# Altium footprint library SparkFun-Connectors.PCBLIB: 305 footprints (part 16 of 20)
Each footprint in its own frame and in the unit in brackets; x right, y up, seen from the top. Pads: shape width x height; smd on the part's side, far side on the other; paste and mask are expansions set on the pad; w line width, h text height; cw(c..) or ccw(c..) is an arc to the next point about the centre after c.
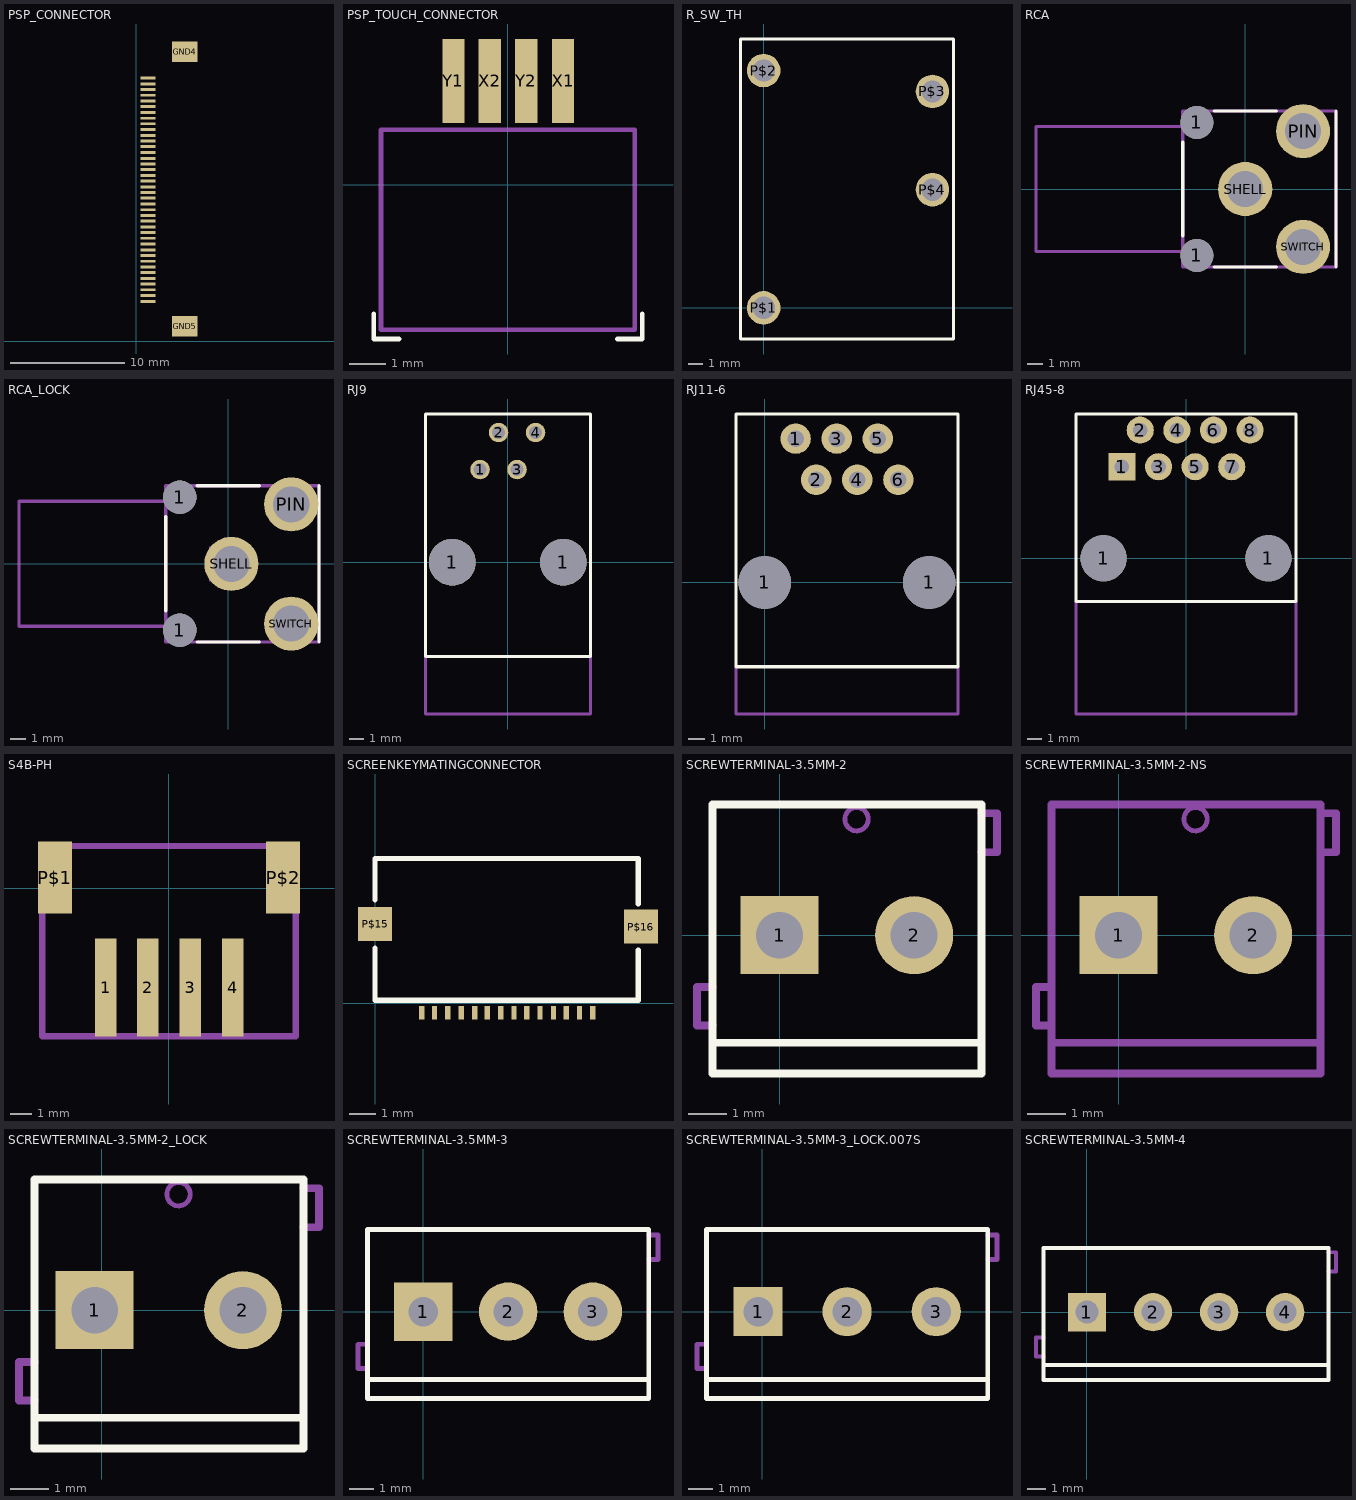
[diagram p15: the footprints below, top view; thin cyan lines are the x and y axes]

## PSP_CONNECTOR [mil]
pads (43):
  rect 1x1 smd far side: .(174,997)
  rect 50x10 smd: AVDD(40,237) AVDD2(40,217) B0(40,512) B1(40,493) B2(40,473) B3(40,453) B4(40,434) B5(40,414) B6(40,394) B7(40,375) CK(40,335) DISP(40,315) G0(40,670) G1(40,650) G2(40,630) G3(40,611) G4(40,591) G5(40,571) G6(40,552) G7(40,532) GND(40,906) GND2(40,886) GND3(40,355) HSYNC(40,296) NC(40,256) NC2(40,197) R0(40,827) R1(40,808) R2(40,788) R3(40,768) R4(40,749) R5(40,729) R6(40,709) R7(40,689) TEST1(40,178) TEST2(40,158) TEST3(40,138) VCC(40,867) VCC2(40,847) VSYNC(40,276)
  rect 87x71 smd: GND4(166,997) GND5(166,52)

## PSP_TOUCH_CONNECTOR [mil]
pads (4):
  rect 24x91 smd: X1(60,113) X2(-19.68,113) Y1(-59.06,113) Y2(20,113)
Top Overlay:
  lines w5: -145.67,-139.76 -145.67,-167.32 -118.11,-167.32 ; 119,-167.32 146,-167.32 146,-139.76
Mechanical 16:
  lines w5: -137.8,-157.48 138,-157.48 138,60 -137.8,60 -137.8,-157.48

## R_SW_TH [mil]
pads (4):
  round 94.5 hole 63: P$1(0,0) P$2(0,669) P$3(476,610) P$4(476,333)
Top Overlay:
  lines w8: -65,-88 -65,-54 -65,758 535,758 535,-88 -65,-88

## RCA [mil]
pads (5):
  round 83 hole 83: 1(-122.05,-167.32) 1(-122.05,168)
  round 136.5 hole 91: PIN(146,146) SHELL(0,0) SWITCH(146,-145.67)
Top Overlay:
  lines w8: -157.48,-118.11 -157.48,119 ; -78.74,-196.85 79,-196.85 ; -78.74,197 79,197 ; 229,-196.85 229,197
Mechanical 16:
  lines w8: -157.48,-157.48 -527.56,-157.48 -527.56,158 -157.48,158 ; -157.48,-196.85 -157.48,197 229,197 229,-196.85 -157.48,-196.85

## RCA_LOCK [mil]
pads (5):
  round 84 hole 84: 1(-122.05,-167.32) 1(-122.05,168)
  round 136.5 hole 91: PIN(159,150) SHELL(8,0) SWITCH(159,-150.67)
Top Overlay:
  lines w8: -157.48,-118.11 -157.48,119 ; -78.74,-196.85 79,-196.85 ; -78.74,197 79,197 ; 229,-196.85 229,197
Mechanical 16:
  rectangle: -152,137 -93,196
  rectangle: -152,-198 -93,-139
  rectangle: -49,-44 10,44
  rectangle: 113,-153 201,-139
  rectangle: 113,137 201,151
  lines w1: 113,-138 176,-138 ; 113,136 176,136
  lines w8: -157.48,-157.48 -527.56,-157.48 -527.56,158 -157.48,158 ; -157.48,-196.85 -157.48,197 229,197 229,-196.85 -157.48,-196.85

## RJ9 [mil]
pads (6):
  round 126 hole 126: 1(-150,0) 1(150,0)
  round 52.5 hole 35: 1(-75,250) 2(-25,350) 3(25,250) 4(75,350)
Top Overlay:
  lines w8: -222.05,-255 -222.05,400 223,400 223,-255 -222.05,-255
Mechanical 16:
  lines w8: -222.05,-255 -222.05,-409.84 223,-409.84 223,-255

## RJ11-6 [mil]
pads (8):
  round 128 hole 128: 1(0,0) 1(400,0)
  round 74 hole 40: 1(75,350) 2(125,250) 3(175,350) 4(225,250) 5(275,350) 6(325,250)
Top Overlay:
  lines w8: -70,-205 -70,410 470,410 470,-205 -70,-205
Mechanical 16:
  lines w8: -70,-205 -70,-320 470,-320 470,-205

## RJ45-8 [mil]
pads (10):
  round 126 hole 126: 1(-225,0) 1(225,0)
  rect 74x74 hole 40: 1(-175,250)
  round 74 hole 40: 2(-125,350) 3(-75,250) 4(-25,350) 5(25,250) 6(75,350) 7(125,250) 8(175,350)
Top Overlay:
  lines w8: -300,-118.11 -300,394 300,394 300,-118.11 -300,-118.11
Mechanical 16:
  lines w8: -300,-118.11 -300,-425.2 300,-425.2 300,-118.11

## S4B-PH [mil]
pads (6):
  rect 40x182 smd: 1(-118.11,-185.04) 2(-39.37,-185.04) 3(40,-185.04) 4(119,-185.04)
  rect 63x134 smd: P$1(-212.6,20) P$2(213,20)
Mechanical 16:
  lines w12: -236.22,-275.59 -236.22,79 237,79 237,-275.59 -236.22,-275.59

## SCREENKEYMATINGCONNECTOR [mil]
pads (16):
  rect 8x20 smd: 1(70,-14.17) 2(89,-14.17) 3(109,-14.17) 4(129,-14.17) 5(149,-14.17) 6(168,-14.17) 7(188,-14.17) 8(208,-14.17) 9(227,-14.17) 10(247,-14.17) 11(267,-14.17) 12(286,-14.17) 13(306,-14.17) 14(326,-14.17)
  rect 51x51 smd: P$15(0,119) P$16(398,115)
Top Overlay:
  lines w8: 0,83 0,5 394,5 394,80 ; 0,155 0,216 ; 0,217 394,217 394,149

## SCREWTERMINAL-3.5MM-2 [mil]
pads (2):
  rect 80x80 hole 48: 1(0,0)
  round 80 hole 48: 2(138,0)
Top Overlay:
  lines w8: -68.9,-110.24 -68.9,-141.73 207,-141.73 207,-110.24 ; -68.9,-110.24 -68.9,134 207,134 207,-110.24 ; -68.9,-110.24 207,-110.24
Mechanical 16:
  circle w5: c79,119 r12
  lines w8: -68.9,-92.52 -84.65,-92.52 -84.65,-53.15 -68.9,-53.15 ; 207,85 223,85 223,125 207,125

## SCREWTERMINAL-3.5MM-2-NS [mil]
pads (2):
  rect 80x80 hole 48: 1(0,0)
  round 80 hole 48: 2(138,0)
Mechanical 16:
  circle w5: c79,119 r12
  lines w8: -68.9,-92.52 -84.65,-92.52 -84.65,-53.15 -68.9,-53.15 ; 207,85 223,85 223,125 207,125 ; -68.9,-110.24 -68.9,-141.73 207,-141.73 207,-110.24 ; -68.9,-110.24 -68.9,134 207,134 207,-110.24 ; -68.9,-110.24 207,-110.24

## SCREWTERMINAL-3.5MM-2_LOCK [mil]
pads (2):
  rect 80x80 hole 48: 1(-7,0)
  round 80 hole 48: 2(145,0)
Top Overlay:
  lines w8: -68.9,-110.24 -68.9,-141.73 207,-141.73 207,-110.24 ; -68.9,-110.24 -68.9,134 207,134 207,-110.24 ; -68.9,-110.24 207,-110.24
Mechanical 16:
  circle w5: c79,119 r12
  circle w1: c0,0 r17
  circle w1: c138,0 r17
  lines w8: -68.9,-92.52 -84.65,-92.52 -84.65,-53.15 -68.9,-53.15 ; 207,85 223,85 223,125 207,125

## SCREWTERMINAL-3.5MM-3 [mil]
pads (3):
  rect 95x95 hole 48: 1(0,0)
  round 95 hole 48: 2(138,0) 3(276,0)
Top Overlay:
  lines w8: -90.55,-110.24 -90.55,-141.73 367,-141.73 367,-110.24 ; -90.55,-110.24 -90.55,134 367,134 367,-110.24 ; -90.55,-110.24 367,-110.24
Mechanical 16:
  lines w8: -90.55,-92.52 -106.3,-92.52 -106.3,-53.15 -90.55,-53.15 ; 367,85 382,85 382,125 367,125

## SCREWTERMINAL-3.5MM-3_LOCK.007S [mil]
pads (3):
  rect 80x80 hole 48: 1(-7,0)
  round 80 hole 48: 2(138,0) 3(283,0)
Top Overlay:
  lines w8: -90.55,-110.24 -90.55,-141.73 367,-141.73 367,-110.24 ; -90.55,-110.24 -90.55,134 367,134 367,-110.24 ; -90.55,-110.24 367,-110.24
Mechanical 16:
  circle w1: c0,0 r17
  circle w1: c138,0 r17
  circle w1: c276,0 r17
  lines w8: -90.55,-92.52 -106.3,-92.52 -106.3,-53.15 -90.55,-53.15 ; 367,85 382,85 382,125 367,125

## SCREWTERMINAL-3.5MM-4 [mil]
pads (4):
  rect 80x80 hole 48: 1(0,0)
  round 80 hole 48: 2(138,0) 3(276,0) 4(414,0)
Top Overlay:
  lines w8: -90.55,-110.24 -90.55,-141.73 504,-141.73 504,-110.24 ; -90.55,-110.24 -90.55,134 504,134 504,-110.24 ; -90.55,-110.24 504,-110.24
Mechanical 16:
  circle w1: c0,0 r17
  circle w1: c138,0 r17
  circle w1: c276,0 r17
  circle w1: c414,0 r17
  lines w8: -90.55,-92.52 -106.3,-92.52 -106.3,-53.15 -90.55,-53.15 ; 504,85 520,85 520,125 504,125